# EAGLE library part IMSC011M1 (library my_relai)
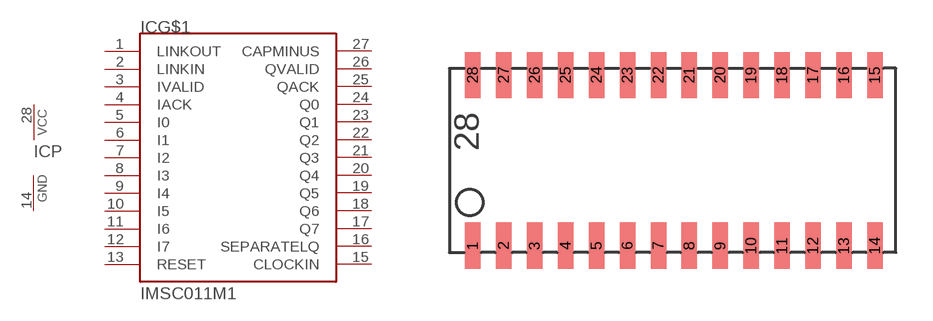
[diagram p0: symbol with the pads of SOJ28-3; footprint SOJ28-3]

Designator prefix IC; gates G$1=IMSC011M P=PWRN

## IMSC011M1  [SOJ28-3]
1  G$1:LINKOUT  out
2  G$1:LINKIN  in
3  G$1:IVALID  in
4  G$1:IACK  out
5  G$1:I0  in
6  G$1:I1  in
7  G$1:I2  in
8  G$1:I3  in
9  G$1:I4  in
10  G$1:I5  in
11  G$1:I6  in
12  G$1:I7  in
13  G$1:RESET  in
14  P:GND  pwr
15  G$1:CLOCKIN  in
16  G$1:SEPARATELQ  in
17  G$1:Q7  out
18  G$1:Q6  out
19  G$1:Q5  out
20  G$1:Q4  out
21  G$1:Q3  out
22  G$1:Q2  out
23  G$1:Q1  out
24  G$1:Q0  out
25  G$1:QACK  in
26  G$1:QVALID  out
27  G$1:CAPMINUS
28  P:VCC  pwr

## Footprint SOJ28-3 (pad centres in mm)
smd 0.635 x 1.905: 1 -7.62,-3.505; 2 -6.35,-3.505; 3 -5.08,-3.505; 4 -3.81,-3.505; 5 -2.54,-3.505; 6 -1.27,-3.505; 7 0,-3.505; 8 1.27,-3.505; 9 2.54,-3.505; 10 3.81,-3.505; 11 5.08,-3.505; 12 6.35,-3.505; 13 7.62,-3.505; 14 8.89,-3.505; 15 8.89,3.505; 16 7.62,3.505; 17 6.35,3.505; 18 5.08,3.505; 19 3.81,3.505; 20 2.54,3.505; 21 1.27,3.505; 22 0,3.505; 23 -1.27,3.505; 24 -2.54,3.505; 25 -3.81,3.505; 26 -5.08,3.505; 27 -6.35,3.505; 28 -7.62,3.505